# EAGLE library part CUSTOM_SN74LVC2G00 (library Dipper-digi-v0.1)
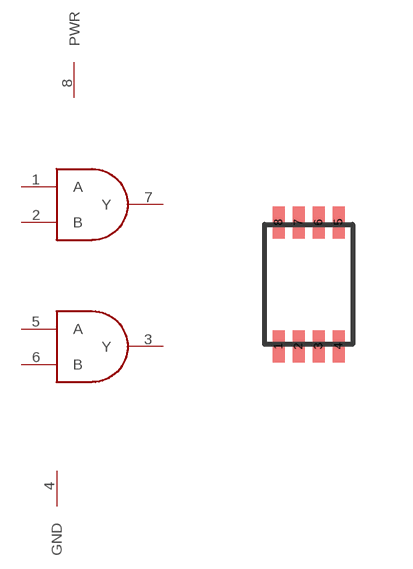
[diagram p5: symbol with the pads of CUSTOM_DCT8; footprint CUSTOM_DCT8]

Designator prefix -; gates G$1=CUSTOM_AND G$2=CUSTOM_AND G$3=CUSTOM_GND G$4=CUSTOM_PWR

## CUSTOM_SN74LVC2G00  [CUSTOM_DCT8]
1  G$1:A  in
2  G$1:B  in
3  G$2:Y  out
4  G$3:GND  pas
5  G$2:A  in
6  G$2:B  in
7  G$1:Y  out
8  G$4:PWR  pas

## Footprint CUSTOM_DCT8 (pad centres in mm)
smd 0.3 x 0.8: 1 -0.75,-1.55; 2 -0.25,-1.55; 3 0.25,-1.55; 4 0.75,-1.55; 5 0.75,1.55; 6 0.25,1.55; 7 -0.25,1.55; 8 -0.75,1.55